# Altium schematic symbol library SN74HC4040.Schlib: 1 symbol
Pins are listed as number, name and electrical type; pins without a type are passive.

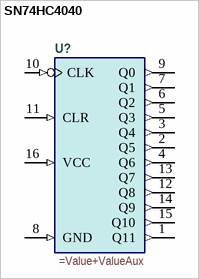
[diagram p0: symbol SN74HC4040]

## SN74HC4040
designator U?
=Designator
pins: 1 Q11 (out), 2 Q5 (out), 3 Q4 (out), 4 Q6 (out), 5 Q3 (out), 6 Q2 (out), 7 Q1 (out), 8 GND (in), 9 Q0 (out), 10 CLK (in), 11 CLR (in), 12 Q8 (out), 13 Q7 (out), 14 Q9 (out), 15 Q10 (out), 16 VCC (in)